# EAGLE library part ANALOG_DEVICES_ADXRS646BBGZ (library Analog Devices - ADXRS646BBGZ)
ADI-ADXRS646-BG-32-3
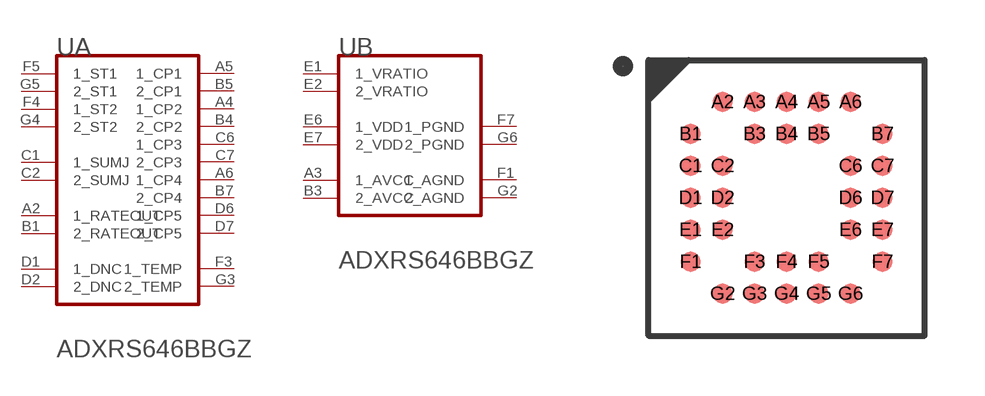
[diagram p0: symbol with the pads of ANALOG_DEVICES_ADXRS646BBGZ_0; footprint ANALOG_DEVICES_ADXRS646BBGZ_0]

Designator prefix U; gates A=ANALOG_DEVICES_ADXRS646BBGZ_0_0 B=ANALOG_DEVICES_ADXRS646BBGZ_0_1

## ANALOG_DEVICES_ADXRS646BBGZANALOG_DEVICES_ADXRS646BBGZ_0_0 (3DB_BANDWIDTH: 1 KHz; CIIVA_IDS: 978111; COMPONENT_LINK_1_DESCRIPTION: Manufacturer URL; COMPONENT_LINK_1_URL: http://www.analog.com/en/index.html; COMPONENT_LINK_3_DESCRIPTION: Package Specification; COMPONENT_LINK_3_URL: http:/www.analog.com/static/imported-files/packages/6438543BG_32_3.pdf; COMPONENT_LINK_4_DESCRIPTION: Product URL; COMPONENT_LINK_4_URL: http://www.analog.com/en/mems-sensors/mems-gyroscopes/adxrs646/products/product.html; DATASHEET: http://www.analog.com/static/imported-files/data_sheets/ADXRS646.pdf; DATASHEET_VERSION: Rev. A; FOOTPRINT_VARIANT_NAME_0: Manufacturer Recommended; IMPORTED: yes; IMPORTED_FROM: vault; IMPORT_TS: 1521855654; MF: Analog Devices; MOUNTING_TECHNOLOGY: Surface Mount; MPN: ADXRS646BBGZ; NONLINIARITY: 0.01% of FS; OUTPUT_TYPE: Analog; PACKAGE: BG-32-3; PACKAGE_DESCRIPTION: 32-Ball Ceramic Ball Grid Array, 6.85 x 6.85 mm Body, 0.8 mm Pitch; PACKAGE_VERSION: 042307-A, 04/2007; PACKING: Tray; PREFIX: U; RELEASE_DATE: 1396258507; SENSITIVITY: 9 mV/degrees/s; SUPPLY_CURRENT: 4 mA; TEMP_SENSOR: Yes; VAULT_GUID: 39260BA0-1B05-41FE-9F0C-E391FDD8AF37; VAULT_REVISION: 44A55B5B-B9A1-45C2-8DBB-A65CD5D96A36; VOLTAGE_REFERENCE: No; VOLTAGE_SUPPLY_V: 5.75 to 6.25)  [ANALOG_DEVICES_ADXRS646BBGZ_0]
A2  A:1_RATEOUT  out
A3  B:1_AVCC  pwr
A4  A:1_CP2  pas
A5  A:1_CP1  pas
A6  A:1_CP4  pas
B1  A:2_RATEOUT  out
B3  B:2_AVCC  pwr
B4  A:2_CP2  pas
B5  A:2_CP1  pas
B7  A:2_CP4  pas
C1  A:1_SUMJ  in
C2  A:2_SUMJ  in
C6  A:1_CP3  pas
C7  A:2_CP3  pas
D1  A:1_DNC  pas
D2  A:2_DNC  pas
D6  A:1_CP5  pwr
D7  A:2_CP5  pwr
E1  B:1_VRATIO  pwr
E2  B:2_VRATIO  pwr
E6  B:1_VDD  pwr
E7  B:2_VDD  pwr
F1  B:1_AGND  pwr
F3  A:1_TEMP  out
F4  A:1_ST2  in
F5  A:1_ST1  in
F7  B:1_PGND  pwr
G2  B:2_AGND  pwr
G3  A:2_TEMP  out
G4  A:2_ST2  in
G5  A:2_ST1  in
G6  B:2_PGND  pwr

## Footprint ANALOG_DEVICES_ADXRS646BBGZ_0 (pad centres in mm)
ADI-ADXRS646-BG-32-3
smd 0.5 x 0.5: A2 -1.6,2.4; A3 -0.8,2.4; A4 0,2.4; A5 0.8,2.4; A6 1.6,2.4; B1 -2.4,1.6; B3 -0.8,1.6; B4 0,1.6; B5 0.8,1.6; B7 2.4,1.6; C1 -2.4,0.8; C2 -1.6,0.8; C6 1.6,0.8; C7 2.4,0.8; D1 -2.4,0; D2 -1.6,0; D6 1.6,0; D7 2.4,0; E1 -2.4,-0.8; E2 -1.6,-0.8; E6 1.6,-0.8; E7 2.4,-0.8; F1 -2.4,-1.6; F3 -0.8,-1.6; F4 0,-1.6; F5 0.8,-1.6; F7 2.4,-1.6; G2 -1.6,-2.4; G3 -0.8,-2.4; G4 0,-2.4; G5 0.8,-2.4; G6 1.6,-2.4